# EAGLE library part CC2591 (library chipcon-ti-V2)
2.4-GHz RF Front End
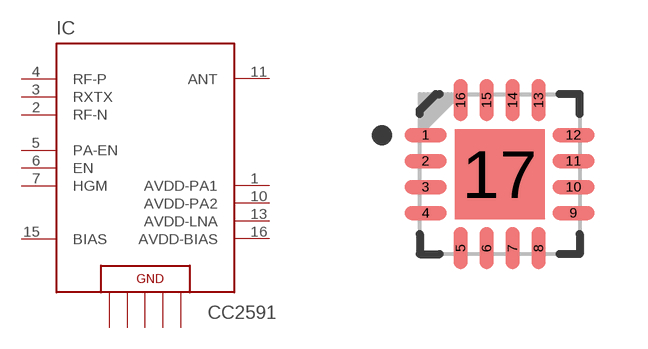
[diagram p16: symbol with the pads of QFN65P400X400X100-17N; footprint QFN65P400X400X100-17N]

Designator prefix IC

## CC2591  [QFN65P400X400X100-17N]
1  AVDD-PA1  pwr
2  RF-N
3  RXTX
4  RF-P
5  PA-EN  in
6  EN  in
7  HGM  in
8  GND  pwr
9  GND  pwr
10  AVDD-PA2  pwr
11  ANT
12  GND  pwr
13  AVDD-LNA  pwr
14  GND  pwr
15  BIAS
16  AVDD-BIAS  pwr
17  GND-PL  pwr

## Footprint QFN65P400X400X100-17N (pad centres in mm)
QFN,0.65mm pitch,square;16 pin,4.00mm L X 4.00mm W X 1.00mm H body (w/thermal tab) IPC7351A for VQFN16 (CC2590)
smd 1.05 x 0.35: 1 -1.85,0.975; 2 -1.85,0.325; 3 -1.85,-0.325; 4 -1.85,-0.975; 9 1.85,-0.975; 10 1.85,-0.325; 11 1.85,0.325; 12 1.85,0.975
smd 0.35 x 1.05: 5 -0.975,-1.85; 6 -0.325,-1.85; 7 0.325,-1.85; 8 0.975,-1.85; 13 0.975,1.85; 14 0.325,1.85; 15 -0.325,1.85; 16 -0.975,1.85
smd 2.25 x 2.25: 17 0,0